# Altium integrated library BM3451.IntLib: 1 symbol
Pins are listed as number, name and electrical type; pins without a type are passive.

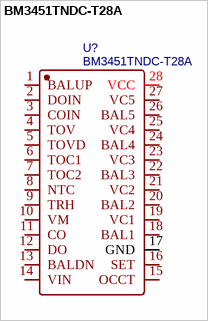
[diagram p0: symbol BM3451TNDC-T28A]

## BM3451TNDC-T28A
designator U?
Manufacturer: null; Contributor: LCSC; Supplier: LCSC; Supplier Part: C2886281; Manufacturer Part: BM3451TNDC-T28A; JLCPCB Part Class: Extended Part; spicePre: U; spiceSymbolName: BM3451TNDC-T28A
footprint TSSOP-28_L9.7-W4.4-P0.65-LS6.4-BL
pins: 1 BALUP, 2 DOIN, 3 COIN, 4 TOV, 5 TOVD, 6 TOC1, 7 TOC2, 8 NTC, 9 TRH, 10 VM, 11 CO, 12 DO, 13 BALDN, 14 VIN, 15 OCCT, 16 SET, 17 GND, 18 BAL1, 19 VC1, 20 BAL2, 21 VC2, 22 BAL3, 23 VC3, 24 BAL4, 25 VC4, 26 BAL5, 27 VC5, 28 VCC